# EAGLE library part BC846BPDW1T1G (library on-semiconductor)
Dual General Purpose Transistors These transistors are designed for general purpose amplifier applications. They are housed in the SOT−363/SC−88 which is designed for low power surface mount applications.
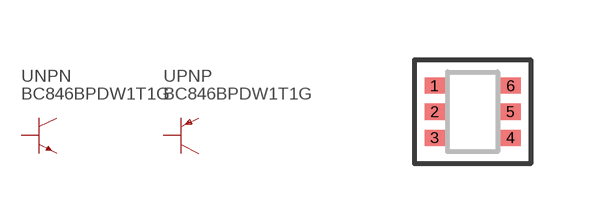
[diagram p3: symbol with the pads of SOT-363; footprint SOT-363]

Designator prefix U; gates NPN=NPN PNP=PNP

## BC846BPDW1T1G  [SOT-363]
1  NPN:EMITTER
2  NPN:BASE
3  PNP:COLLECTOR
4  PNP:EMITTER
5  PNP:BASE
6  NPN:COLLECTOR

## Footprint SOT-363 (pad centres in mm)
smd 0.5 x 0.4: 1 -0.95,0.65; 2 -0.95,0; 3 -0.95,-0.65; 4 0.95,-0.65; 5 0.95,0; 6 0.95,0.65